# Altium footprint library Capacitors.PcbLib: 39 footprints (part 2 of 3)
Each footprint in its own frame and in the unit in brackets; x right, y up, seen from the top. Pads: shape width x height; smd on the part's side, far side on the other; paste and mask are expansions set on the pad; w line width, h text height; cw(c..) or ccw(c..) is an arc to the next point about the centre after c.
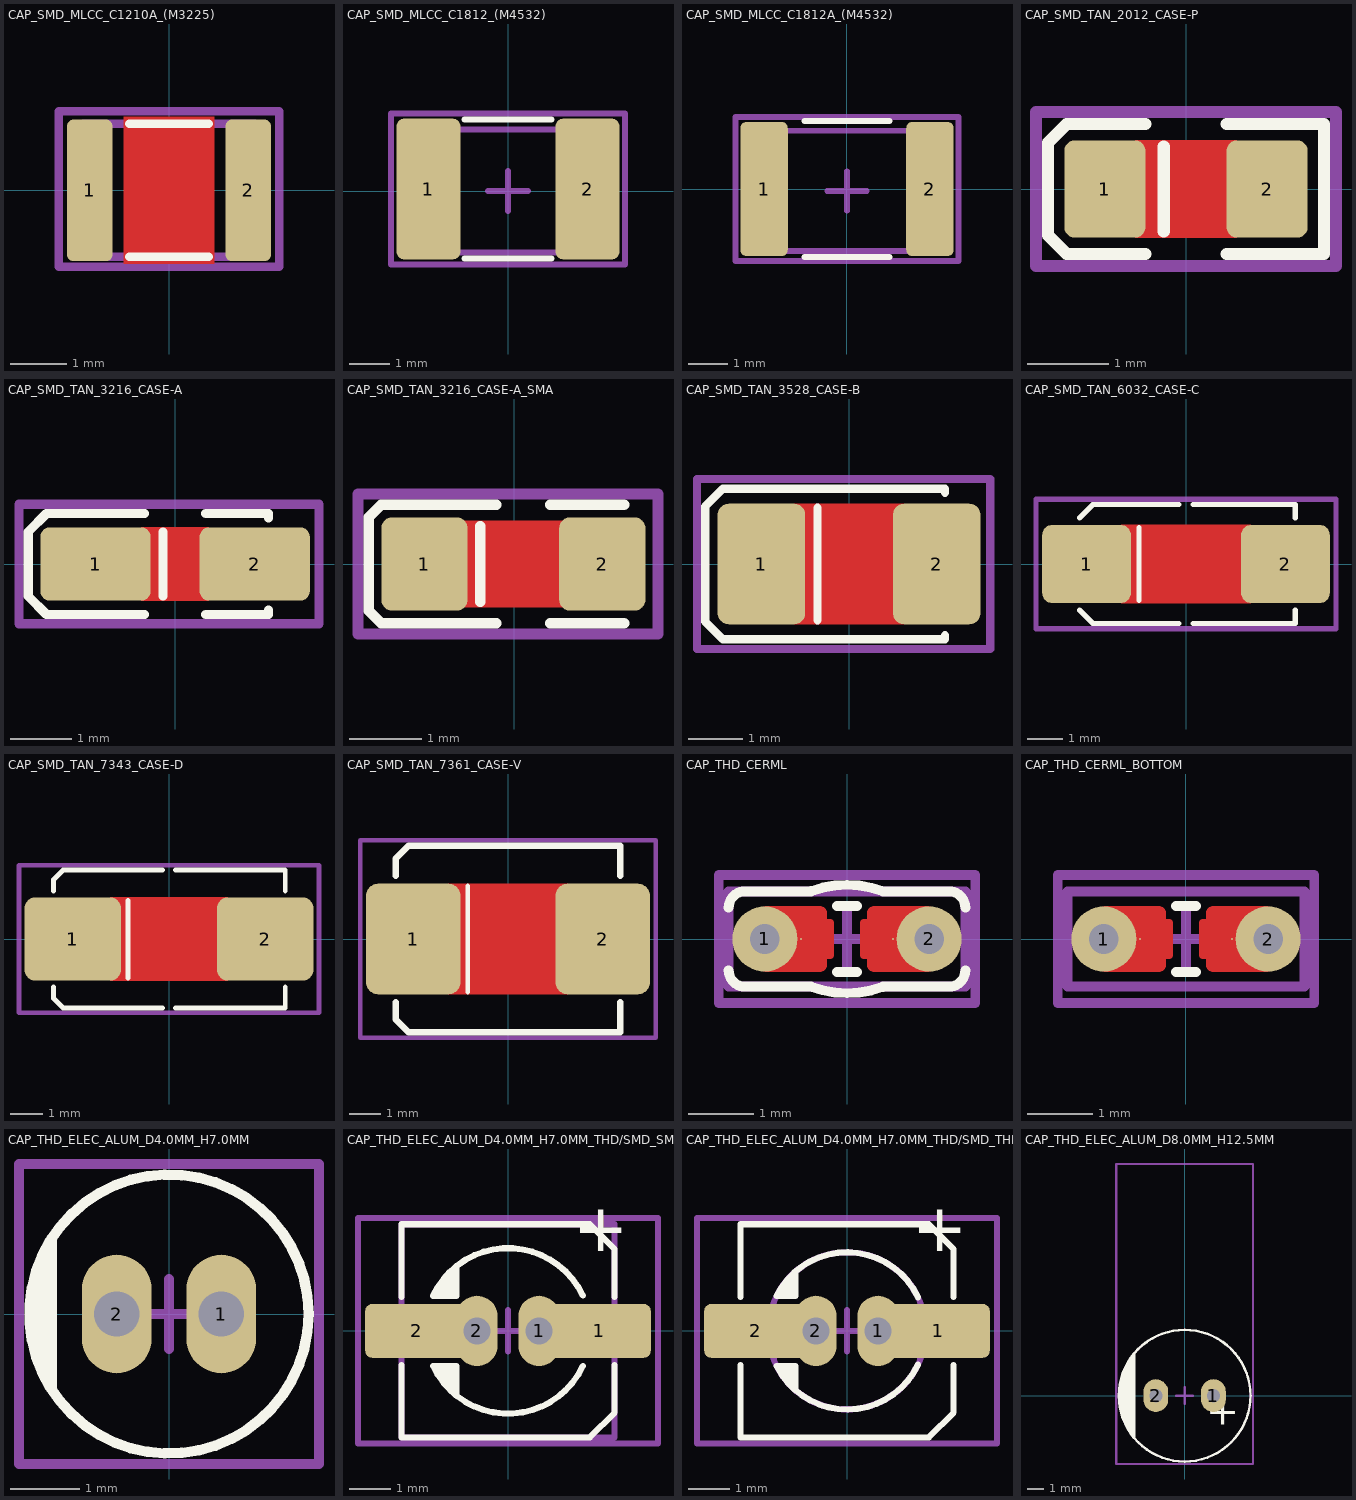
[diagram p1: the footprints below, top view; thin cyan lines are the x and y axes]

## CAP_SMD_MLCC_C1210A_(M3225) [mm] "CHIP Capacitor, 3.2X2.5mm, 1210, for PCBA"
pads (2):
  rrect25% 0.8x2.5 smd mask+0.075: 1(-1.4,0) 2(1.4,0)
Top Layer:
  pour cut-out: -0.8,1.3 -0.8,-1.3 0.8,-1.3 0.8,1.3
Top Overlay:
  lines w0.15: -0.7,-1.175 0.7,-1.175 ; -0.7,1.175 0.7,1.175
Top Designator:
  text ".Designator" at -2.503,-0.266 h1.3
Mechanical 13:
  lines w0.15: -1.525,-1.175 1.525,-1.175 1.525,1.175 -1.525,1.175 -1.525,-1.175
Mechanical 15:
  lines w0.15: -0.5,0 0.5,0 ; 0,-0.5 0,0.5 ; -1.95,-1.35 1.95,-1.35 1.95,1.4 -1.95,1.4 -1.95,-1.35
3D body "User Library-CAPC3225X10.step": height 1, standoff 0, extent -1.6,-1.25 1.6,1.25

## CAP_SMD_MLCC_C1812_(M4532) [mm] "CHIP Capacitor, 4.5x3.2mm, 1812"
height 2.8
pads (2):
  rrect25% 1.6x3.5 smd mask+0.05: 1(-1.975,0.05) 2(1.975,0.05)
Top Overlay:
  lines w0.15: -1.075,-1.675 1.075,-1.675 ; -1.075,1.775 1.075,1.775
Top Designator:
  text ".Designator" at -2.462,-0.24 h1.3
Mechanical 13:
  lines w0.15: -2.175,-1.525 2.175,-1.525 2.175,1.525 -2.175,1.525 -2.175,-1.525
Mechanical 15:
  lines w0.15: -0.5,0 0.5,0 ; 0,-0.5 0,0.5 ; -2.9,-1.825 2.9,-1.825 2.9,1.925 -2.9,1.925 -2.9,-1.825
3D body "Ceramic_Capacitor_1812_h99mil.step": height 2.51, standoff 0.01, extent -2.25,-1.55 2.25,1.65

## CAP_SMD_MLCC_C1812A_(M4532) [mm] "CHIP Capacitor, 4.5x3.2mm, 1812"
height 2.8
pads (2):
  rrect25% 1.2x3.4 smd mask+0.05: 1(-2.1,0) 2(2.1,0)
Top Overlay:
  lines w0.15: -1.075,-1.725 1.075,-1.725 ; -1.075,1.725 1.075,1.725
Top Designator:
  text ".Designator" at -2.462,-0.34 h1.3
Mechanical 13:
  lines w0.15: -2.175,-1.575 2.175,-1.575 2.175,1.475 -2.175,1.475 -2.175,-1.575
Mechanical 15:
  lines w0.15: -0.5,-0.05 0.5,-0.05 ; 0,-0.55 0,0.45 ; -2.825,-1.825 -2.825,1.825 2.825,1.825 2.825,-1.825 -2.825,-1.825
3D body "Ceramic_Capacitor_1812_h99mil.step": height 2.51, standoff 0.01, extent -2.25,-1.6 2.25,1.6

## CAP_SMD_TAN_2012_CASE-P [mm] "CAPACITOR, TAN N, TAN P, TAN R, 0805P, 2x1.3mm"
pads (2):
  rrect25% 1x1.2 smd: 1(-1,0) 2(1,0)
Top Layer:
  pour cut-out: -0.625,0.6 0.625,0.6 0.625,-0.6 -0.625,-0.6
Top Overlay:
  lines w0.15: -0.5,-0.8 -1.475,-0.8 -1.7,-0.575 -1.7,0.575 -1.475,0.8 -0.5,0.8 ; -0.275,-0.525 -0.275,0.525 ; 0.5,-0.8 1.7,-0.8 1.7,0.8 0.5,0.8
Top Designator:
  text ".Designator" at -2.462,-0.29 h1.3
Mechanical 15:
  lines w0.15: -0.5,0 0.5,0 ; 0,-0.5 0,0.5 ; -1.85,-0.95 1.85,-0.95 1.85,0.95 -1.85,0.95 -1.85,-0.95
3D body "User Library-Tantalum Capacitor Case R.STEP": height 1.35, standoff 0, extent -1.042,-0.685 1.208,0.665

## CAP_SMD_TAN_3216_CASE-A [mm] "CAPACITOR, TAN A, 1206P, 3.2x1.6mm"
height 1.8
pads (2):
  rrect25% 1.8x1.2 smd: 1(-1.3,0) 2(1.3,0)
Top Layer:
  pour cut-out: -0.55,0.6 0.55,0.6 0.55,-0.6 -0.55,-0.6
Top Overlay:
  lines w0.15: -0.5,-0.825 -1.7,-0.825 -2.1,-0.825 -2.4,-0.525 -2.4,0.525 -2.1,0.825 -0.5,0.825 ; -0.2,-0.525 -0.2,0.525 ; 0.5,-0.825 1.525,-0.825 1.525,-0.75 ; 0.5,0.825 1.525,0.825 1.525,0.75
Top Designator:
  text ".Designator" at -2.562,-0.29 h1.3
Mechanical 15:
  lines w0.15: -0.5,0 0.5,0 ; 0,-0.5 0,0.5 ; -2.55,-0.975 -2.55,0.975 2.35,0.975 2.35,-0.975 -2.55,-0.975
3D body "User Library-CAP_TANT_3216-18_A_case-1.step": height 1.7, standoff 0, extent -1.7,-0.9 1.7,0.9

## CAP_SMD_TAN_3216_CASE-A_SMA [mm] "CAPACITOR, TAN A, 1206P, 3.2x1.6mm"
height 1.8
pads (2):
  rrect25% 1.2x1.3 smd: 1(-1.25,0) 2(1.225,0)
Top Layer:
  pour cut-out: -1.25,0.6 1.225,0.6 1.225,-0.6 -1.25,-0.6
Top Overlay:
  lines w0.15: -0.475,-0.525 -0.475,0.525 ; -0.25,-0.825 -1.45,-0.825 -1.85,-0.825 -2.025,-0.65 -2.025,0.65 -1.85,0.825 -0.25,0.825 ; 0.5,-0.825 1.525,-0.825 ; 0.5,0.825 1.525,0.825
Top Designator:
  text ".Designator" at -2.562,-0.29 h1.3
Mechanical 15:
  lines w0.15: -0.5,0 0.5,0 ; 0,-0.5 0,0.5 ; -2.175,-0.975 -2.175,0.975 2,0.975 2,-0.975 -2.175,-0.975
3D body "User Library-CAP_TANT_3216-18_A_case-1.step": height 1.7, standoff 0, extent -1.7,-0.9 1.7,0.9

## CAP_SMD_TAN_3528_CASE-B [mm] "CAPACITOR, TAN B, TAN H, TAN T, TAN M, 3528P, 1210P, 3.5x2.8mm"
pads (2):
  rrect25% 1.6x2.2 smd: 1(-1.6,0) 2(1.6,0)
Top Layer:
  pour cut-out: -1,1.1 -1,-1.1 1,-1.1 1,1.1
Top Overlay:
  lines w0.15: -0.575,-1.025 -0.575,1.025 ; 1.75,-1.3 1.75,-1.375 -2.3,-1.375 -2.625,-1.05 -2.625,1.05 -2.3,1.375 1.75,1.375 1.75,1.3
Top Designator:
  text ".Designator" at -2.562,-0.295 h1.3
Mechanical 15:
  lines w0.15: -0.5,0 0.5,0 ; 0,-0.5 0,0.5 ; -2.775,-1.55 -2.775,1.55 2.575,1.55 2.575,-1.55 -2.775,-1.55
3D body "User Library-AVX_BCASE.step": height 2.03, standoff 0, extent -1.85,-1.465 1.85,1.465

## CAP_SMD_TAN_6032_CASE-C [mm] "CAPACITOR, TAN C, TAN F, TAN U, TAN L, 6032P, 6.0x3.2mm"
height 2.8
pads (2):
  rrect25% 2.5x2.2 smd: 1(-2.8,0) 2(2.8,0)
Top Layer:
  pour cut-out: -1.825,1.1 1.825,1.1 1.825,-1.1 -1.825,-1.1
Top Overlay:
  lines w0.15: -3,-1.3 -2.625,-1.675 -0.2,-1.675 ; -3,1.3 -2.625,1.675 -0.2,1.675 ; -1.325,-1.025 -1.325,1.025 ; 0.2,-1.675 3.075,-1.675 3.075,-1.3 ; 0.2,1.675 3.075,1.675 3.075,1.3
Top Designator:
  text ".Designator" at -2.462,-0.29 h1.3
Mechanical 15:
  lines w0.15: -0.5,0 0.5,0 ; 0,-0.5 0,0.5 ; -4.225,-1.825 4.225,-1.825 4.225,1.825 -4.225,1.825 -4.225,-1.825
3D body "User Library-CAP_TANT_6032-28_y.step": height 2.8, standoff 0, extent -3.15,-1.75 3.15,1.75

## CAP_SMD_TAN_7343_CASE-D [mm] "CAPACITOR, TAN D, TAN E, TAN Y, TAN X, 7343P, 7.3x4.3mm"
height 4.3
pads (2):
  rrect25% 3x2.6 smd: 1(-3,0) 2(3,0)
Top Layer:
  pour cut-out: -1.825,1.3 -1.825,-1.3 1.825,-1.3 1.825,1.3
Top Overlay:
  lines w0.15: -3.6,-1.5 -3.6,-1.85 -3.3,-2.15 -0.2,-2.15 ; -3.6,1.5 -3.6,1.85 -3.3,2.15 -0.2,2.15 ; -1.275,-1.225 -1.275,1.2 ; 0.2,-2.15 3.625,-2.15 3.625,-1.5 ; 0.2,2.15 3.625,2.15 3.625,1.5
Top Designator:
  text ".Designator" at -2.462,-0.29 h1.3
Mechanical 15:
  lines w0.15: -0.5,0 0.5,0 ; 0,-0.5 0,0.5 ; -4.675,-2.3 -4.675,2.3 4.675,2.3 4.675,-2.3 -4.675,-2.3
3D body "User Library-AVX_E_CASE.step": height 4.2, standoff 0, extent -3.7,-2.225 3.7,2.225

## CAP_SMD_TAN_7361_CASE-V [mm] "CAPACITOR, TAN V, 2924, 7361, 7.3x6.1mm"
pads (2):
  rrect25% 3x3.5 smd: 1(-3,0) 2(3,0)
Top Layer:
  pour cut-out: -1.875,1.75 -1.875,-1.75 1.875,-1.75 1.875,1.75
Top Overlay:
  lines w0.15: -1.275,-1.675 -1.275,1.675
  lines w0.2: -3.55,-2 -3.55,-2.55 -3.15,-2.95 -0.2,-2.95 3.55,-2.95 3.55,-2 ; -3.55,2 -3.55,2.55 -3.15,2.95 -0.2,2.95 3.55,2.95 3.55,2
Top Designator:
  text ".Designator" at -2.462,-0.29 h1.3
Mechanical 15:
  lines w0.15: -0.5,0 0.5,0 ; 0,-0.5 0,0.5 ; -4.675,-3.125 -4.675,3.125 4.675,3.125 4.675,-3.125 -4.675,-3.125
3D body "User Library-CT_V.step": height 3.45, standoff 0, extent -3.65,-3.05 3.65,3.05

## CAP_THD_CERML [mm] "Multilayer Ceramic Capacitor MLCC 50V dc ±10% , Through Hole"
pads (4):
  round 0.99 hole 0.45: 1(-1.25,0) 2(1.25,0)
  round 0.025 smd: 1(-0.7,0) 2(0.7,0)
Top Layer:
  region: 0.408,-0.495 1.23,-0.495 1.249,-0.495 1.284,-0.481 1.311,-0.454 1.325,-0.419 1.325,-0.4 1.325,0.4 1.325,0.419 1.311,0.454 1.284,0.481 1.249,0.495 1.23,0.495 0.407,0.495 0.388,0.495 0.352,0.48 0.325,0.453 0.31,0.417 0.31,0.397 0.31,0.3 0.25,0.3 0.24,0.3 0.222,0.292 0.208,0.278 0.2,0.26 0.2,0.25 0.2,-0.25 0.2,-0.26 0.208,-0.278 0.222,-0.292 0.24,-0.3 0.25,-0.3 0.31,-0.3 0.31,-0.397 0.31,-0.417 0.325,-0.453 0.352,-0.48 0.388,-0.495
  region: -0.408,-0.495 -1.23,-0.495 -1.249,-0.495 -1.284,-0.481 -1.311,-0.454 -1.325,-0.419 -1.325,-0.4 -1.325,0.4 -1.325,0.419 -1.311,0.454 -1.284,0.481 -1.249,0.495 -1.23,0.495 -0.407,0.495 -0.388,0.495 -0.352,0.48 -0.325,0.453 -0.31,0.417 -0.31,0.397 -0.31,0.3 -0.25,0.3 -0.24,0.3 -0.222,0.292 -0.208,0.278 -0.2,0.26 -0.2,0.25 -0.2,-0.25 -0.2,-0.26 -0.208,-0.278 -0.222,-0.292 -0.24,-0.3 -0.25,-0.3 -0.31,-0.3 -0.31,-0.397 -0.31,-0.417 -0.325,-0.453 -0.352,-0.48 -0.388,-0.495
Top Overlay:
  lines w0.15: -1.8,-0.475 ccw(c-1.55,-0.475) -1.55,-0.725 -0.547,-0.725 ccw(c0.004,0.728) 0.547,-0.728 ; -1.8,0.475 cw(c-1.55,0.475) -1.55,0.725 -0.547,0.725 ; -0.547,0.728 cw(c-0.004,-0.728) 0.547,0.725 1.55,0.725 cw(c1.55,0.475) 1.8,0.475 ; 0.547,-0.725 1.55,-0.725 ccw(c1.55,-0.475) 1.8,-0.475
  lines w0.152: -0.15,-0.5 0.15,-0.5 ; -0.15,0.5 0.15,0.5
Top Designator:
  text ".Designator" at -2.503,-0.266 h1.3
Mechanical 13:
  lines w0.15: -1.8,-0.725 -1.8,0.725 1.8,0.725 1.8,-0.725 -1.8,-0.725
Mechanical 15:
  lines w0.15: -0.5,0 0.5,0 ; 0,-0.5 0,0.5 ; -1.95,-0.975 -1.95,0.975 1.95,0.975 1.95,-0.975 -1.95,-0.975
3D body "Ceramic Capacitor Disc.stp": height 3.6, standoff -1.95, extent -1.853,-1.095 1.868,1.098

## CAP_THD_CERML_BOTTOM [mm] "Multilayer Ceramic Capacitor MLCC 50V dc ±10% , Through Hole"
pads (4):
  round 0.99 hole 0.45: 1(-1.25,0) 2(1.25,0)
  round 0.025 smd: 1(-0.7,0) 2(0.7,0)
Top Layer:
  region: 0.408,-0.495 1.23,-0.495 1.249,-0.495 1.284,-0.481 1.311,-0.454 1.325,-0.419 1.325,-0.4 1.325,0.4 1.325,0.419 1.311,0.454 1.284,0.481 1.249,0.495 1.23,0.495 0.408,0.495 0.388,0.495 0.352,0.48 0.325,0.453 0.31,0.417 0.31,0.397 0.31,0.3 0.25,0.3 0.24,0.3 0.222,0.292 0.208,0.278 0.2,0.26 0.2,0.25 0.2,-0.25 0.2,-0.26 0.208,-0.278 0.222,-0.292 0.24,-0.3 0.25,-0.3 0.31,-0.3 0.31,-0.397 0.31,-0.417 0.325,-0.453 0.352,-0.48 0.388,-0.495
  region: -0.408,-0.495 -1.23,-0.495 -1.249,-0.495 -1.284,-0.481 -1.311,-0.454 -1.325,-0.419 -1.325,-0.4 -1.325,0.4 -1.325,0.419 -1.311,0.454 -1.284,0.481 -1.249,0.495 -1.23,0.495 -0.407,0.495 -0.388,0.495 -0.352,0.48 -0.325,0.453 -0.31,0.417 -0.31,0.397 -0.31,0.3 -0.25,0.3 -0.24,0.3 -0.222,0.292 -0.208,0.278 -0.2,0.26 -0.2,0.25 -0.2,-0.25 -0.2,-0.26 -0.208,-0.278 -0.222,-0.292 -0.24,-0.3 -0.25,-0.3 -0.31,-0.3 -0.31,-0.397 -0.31,-0.417 -0.325,-0.453 -0.352,-0.48 -0.388,-0.495
Top Overlay:
  lines w0.152: -0.15,-0.5 0.15,-0.5 ; -0.15,0.5 0.15,0.5
Bottom Overlay:
  lines w0.15: -1.8,-0.475 ccw(c-1.55,-0.475) -1.55,-0.725 -0.547,-0.725 ccw(c0.004,0.728) 0.547,-0.728 ; -1.8,0.475 cw(c-1.55,0.475) -1.55,0.725 -0.547,0.725 ; -0.547,0.728 cw(c-0.004,-0.728) 0.547,0.725 1.55,0.725 cw(c1.55,0.475) 1.8,0.475 ; 0.547,-0.725 1.55,-0.725 ccw(c1.55,-0.475) 1.8,-0.475
Top Designator:
  text ".Designator" at -2.474,-0.29 h1.3
Mechanical 13:
  lines w0.15: -1.8,-0.725 1.8,-0.725 1.8,0.725 -1.8,0.725 -1.8,-0.725
Mechanical 15:
  lines w0.15: -0.5,0 0.5,0 ; 0,-0.5 0,0.5 ; -1.95,-0.975 1.95,-0.975 1.95,0.975 -1.95,0.975 -1.95,-0.975
3D body "Ceramic Capacitor Disc.stp": height 3.6, standoff -1.95, extent -1.868,-1.095 1.853,1.098

## CAP_THD_ELEC_ALUM_D4.0MM_H7.0MM [mm] "4mm Diameter 1.5mm Lead Spacing Aluminum Electrolytic Capacitors Radial, Can"
height 7
pads (2):
  oval 1x1.7 hole 0.65: 1(0.75,0) 2(-0.75,0)
Top Overlay:
  circle w0.15: c0,0 r2
  region: -1.813,-0.845 -1.905,-0.647 -2,-0.219 -2,0.219 -1.905,0.647 -1.813,0.845
  lines w0.15: -1.815,-0.821 -1.815,0.837 ; -1.679,-1.036 -1.679,1.086
Top Designator:
  text ".Designator" at -2.462,-0.29 h1.3
Mechanical 13:
  circle w0.1: c0,0 r2
  lines w0.1: -1.813,-0.845 -1.813,0.845
Mechanical 15:
  lines w0.15: -0.5,0 0.5,0 ; 0,-0.5 0,0.5 ; -2.15,-2.15 2.15,-2.15 2.15,2.15 -2.15,2.15 -2.15,-2.15
3D body "Cap TH D4.00mm H7.00mm L1.50mm.step": height 7.02, standoff -2.48, extent -2.009,-1.997 1.991,1.997

## CAP_THD_ELEC_ALUM_D4.0MM_H7.0MM_THD/SMD_SMD [mm] "4mm Diameter 1.5mm Lead Spacing Aluminum Electrolytic Capacitors Radial, Can"
height 7
pads (4):
  oval 1x1.7 hole 0.65: 1(0.75,0) 2(-0.75,0)
  rrect25% 2.5x1.3 smd: 1(2.2,0) 2(-2.2,0)
Top Overlay:
  region: -1.25,-1.561 -1.25,-0.845 -1.813,-0.845
  region: -1.25,1.561 -1.25,0.845 -1.813,0.845
  lines w0.15: -2.575,-0.825 -2.575,-2.575 1.975,-2.575 2.575,-1.975 2.575,-0.825 ; -2.575,0.825 -2.575,2.575 1.975,2.575 2.575,1.975 2.575,0.825 ; -1.813,-0.845 -1.25,-0.845 -1.25,-1.561 ; -1.809,-0.852 ccw(c0,0) 1.809,-0.852 ; -1.25,1.561 -1.25,0.845 -1.813,0.845 cw(c0,0) 1.809,0.852
  text "+" at 1.582,1.541 h2
Top Designator:
  text ".Designator" at -2.503,-0.266 h1.3
Mechanical 13:
  lines w0.15: -2.575,-2.575 -2.575,2.575 2.575,2.575 2.575,-2.575 -2.575,-2.575
Mechanical 15:
  lines w0.15: -0.5,0 0.5,0 ; 0,-0.5 0,0.5 ; -3.625,-2.725 3.625,-2.725 3.625,2.725 -3.625,2.725 -3.625,-2.725
3D body ".STEP": height 4.6, standoff 0, extent -2.75,-2.65 2.75,2.65

## CAP_THD_ELEC_ALUM_D4.0MM_H7.0MM_THD/SMD_THD [mm] "4mm Diameter 1.5mm Lead Spacing Aluminum Electrolytic Capacitors Radial, Can"
height 7
pads (4):
  oval 1x1.7 hole 0.65: 1(0.75,0) 2(-0.75,0)
  rrect25% 2.5x1.3 smd: 1(2.2,0) 2(-2.2,0)
Top Overlay:
  region: -1.25,1.431 -1.25,0.845 -1.725,0.825
  region: -1.25,-1.431 -1.25,-0.845 -1.725,-0.825
  lines w0.15: -2.575,-0.825 -2.575,-2.575 1.975,-2.575 2.575,-1.975 2.575,-0.825 ; -2.575,0.825 -2.575,2.575 1.975,2.575 2.575,1.975 2.575,0.825 ; -1.701,-0.846 ccw(c0,0) 1.719,-0.809 ; -1.701,0.846 cw(c0,0) 1.719,0.809 ; -1.7,-0.845 -1.25,-0.845 -1.25,-1.431 ; -1.7,0.845 -1.25,0.845 -1.25,1.431
  text "+" at 1.582,1.541 h2
Top Designator:
  text ".Designator" at -2.503,-0.266 h1.3
Mechanical 13:
  circle w0.15: c0,0 r1.9
Mechanical 15:
  lines w0.15: -0.5,0 0.5,0 ; 0,-0.5 0,0.5 ; -3.625,-2.725 3.625,-2.725 3.625,2.725 -3.625,2.725 -3.625,-2.725
3D body "Cap TH D4.00mm H7.00mm L1.50mm_New.stp": height 7.02, standoff -2.06, extent -2.009,-1.997 1.991,1.997

## CAP_THD_ELEC_ALUM_D8.0MM_H12.5MM [mm] "8MM Diameter, 3.5MM Lead Spacing Aluminium Capacitor"
height 8
pads (2):
  oval 1.5x2 hole 0.8: 1(1.75,0) 2(-1.75,0)
Top Overlay:
  circle w0.15: c0,0 r4
  region: -3,-2.575 -3.5,-2.075 -4,-0.575 -4,0.675 -3.75,1.425 -3.32,2.178 -3,2.675
  text "+" at 1.311,-2.339 h3
Top Designator:
  text ".Designator" at -2.462,4.672 h1.3
Mechanical 13:
  circle w0.1: c0,0 r4
  lines w0.1: -3.1,-2.5 -3.1,2.5
Mechanical 15:
  lines w0.15: -0.5,0 0.5,0 ; 0,-0.5 0,0.5 ; -4.15,-4.15 -4.15,14.075 4.15,14.075 4.15,-4.15 -4.15,-4.15
3D body "ElCapRA-3.5-8x12-black.step": height 9.1, standoff -2, extent -4.001,-0.248 4,14.001